# EAGLE library part LTM2882 (library linear-technology)
Dual Isolated RS232 Transceiver uModule + Power
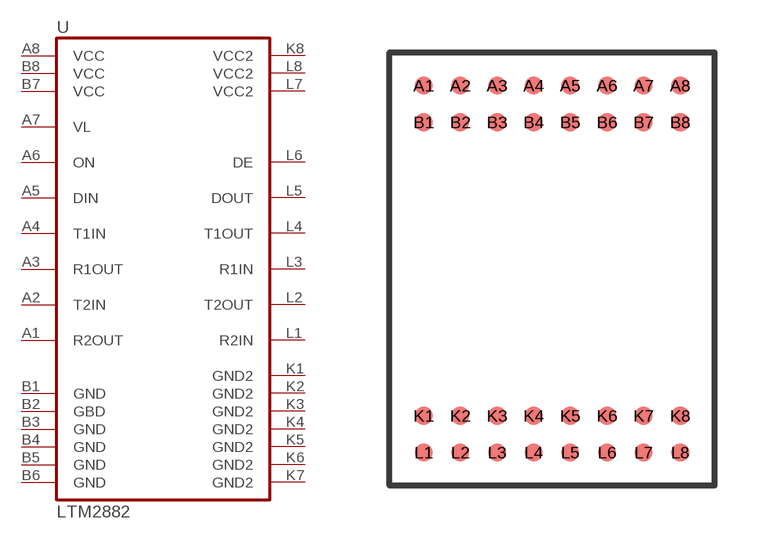
[diagram p55: symbol with the pads of BLGA32; footprint BLGA32]

Designator prefix U

## LTM2882  [BLGA32]
A1  R2OUT  out
A2  T2IN  in
A3  R1OUT  out
A4  T1IN  in
A5  DIN  in
A6  ON  in
A7  VL  pwr
A8  VCC  pwr
B1  GND  pwr
B2  GBD  pwr
B3  GND  pwr
B4  GND  pwr
B5  GND  pwr
B6  GND  pwr
B7  VCC  pwr
B8  VCC  pwr
K1  GND2  pas
K2  GND2  pas
K3  GND2  pas
K4  GND2  pas
K5  GND2  pas
K6  GND2  pas
K7  GND2  pas
K8  VCC2  pas
L1  R2IN  in
L2  T2OUT  out
L3  R1IN  in
L4  T1OUT  out
L5  DOUT  out
L6  DE  in
L7  VCC2  pas
L8  VCC2  pas

## Footprint BLGA32 (pad centres in mm)
BLGA Package 32-Lead (15mm × 11.25mm × 2.82mm) Pitch 0.635mm (Reference LTC DWG # 05-08-1773 Rev Ø)
smd 0.63 x 0.63: A1 -4.445,6.35; A2 -3.175,6.35; A3 -1.905,6.35; A4 -0.635,6.35; A5 0.635,6.35; A6 1.905,6.35; A7 3.175,6.35; A8 4.445,6.35; B1 -4.445,5.08; B2 -3.175,5.08; B3 -1.905,5.08; B4 -0.635,5.08; B5 0.635,5.08; B6 1.905,5.08; B7 3.175,5.08; B8 4.445,5.08; K1 -4.445,-5.08; K2 -3.175,-5.08; K3 -1.905,-5.08; K4 -0.635,-5.08; K5 0.635,-5.08; K6 1.905,-5.08; K7 3.175,-5.08; K8 4.445,-5.08; L1 -4.445,-6.35; L2 -3.175,-6.35; L3 -1.905,-6.35; L4 -0.635,-6.35; L5 0.635,-6.35; L6 1.905,-6.35; L7 3.175,-6.35; L8 4.445,-6.35